# EAGLE library part TPS62162DSGT (library My_Library)
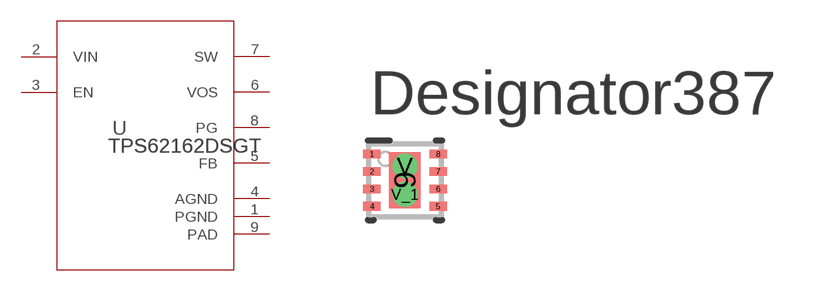
[diagram p31: symbol with the pads of DSG0008A; footprint DSG0008A]

Designator prefix U

## TPS62162DSGT (COPYRIGHT: Copyright (C) 2025 Ultra Librarian. All rights reserved.; MANUFACTURER_PART_NUMBER: TPS62162DSGT; MFR_NAME: Texas Instruments; REFDES: RefDes; TYPE: TYPE)  [DSG0008A]
1  PGND  pwr
2  VIN  pwr
3  EN  in
4  AGND  pwr
5  FB  in
6  VOS  in
7  SW  pwr
8  PG  hiz
9  PAD  pwr

## Footprint DSG0008A (pad centres in mm)
smd 0.5 x 0.25: 1 -0.95,0.75; 2 -0.95,0.25; 3 -0.95,-0.25; 4 -0.95,-0.75; 5 0.95,-0.75; 6 0.95,-0.25; 7 0.95,0.25; 8 0.95,0.75
smd 0.9 x 1.6: 9 0,0
drill 0.203 pad 0.508: V 0,0.406; V_1 0,-0.406